# EAGLE library part 8560Q (library TDA8560Q-2)
2x40W Stereo BTL Amplifier
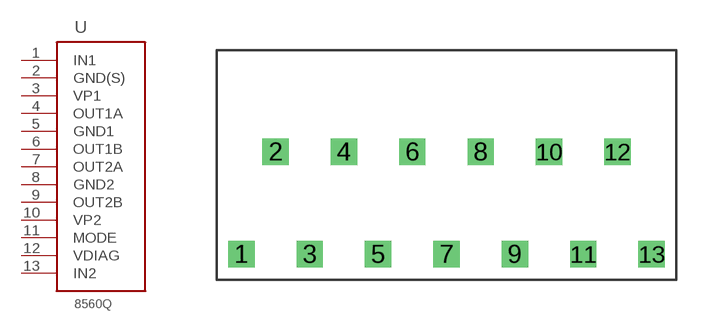
[diagram p0: symbol with the pads of SOT141-6; footprint SOT141-6]

Designator prefix -

## 8560Q  [SOT141-6]
1  IN1
2  GND(S)
3  VP1
4  OUT1A
5  GND1
6  OUT1B
7  OUT2A
8  GND2
9  OUT2B
10  VP2
11  MODE
12  VDIAG
13  IN2

## Footprint SOT141-6 (pad centres in mm)
drill 0.8 square: 1 -10.2,-3.81; 2 -8.5,1.29; 3 -6.8,-3.81; 4 -5.1,1.29; 5 -3.4,-3.81; 6 -1.7,1.29; 7 0,-3.81; 8 1.7,1.29; 9 3.4,-3.81; 10 5.1,1.29; 11 6.8,-3.81; 12 8.5,1.29; 13 10.2,-3.81